# Altium schematic symbol library PinsHoles2.5MM1MM.SchLib: 1 symbol
Pins are listed as number, name and electrical type; pins without a type are passive.

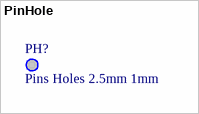
[diagram p0: symbol PinHole]

## PinHole
designator PH?, comment Pins Holes 2.5mm 1mm
footprint PinsHoles (Footprint not found)